# EAGLE library part 5576ХС1 (library fpga)
АЕЯР.431260.478 ТУ
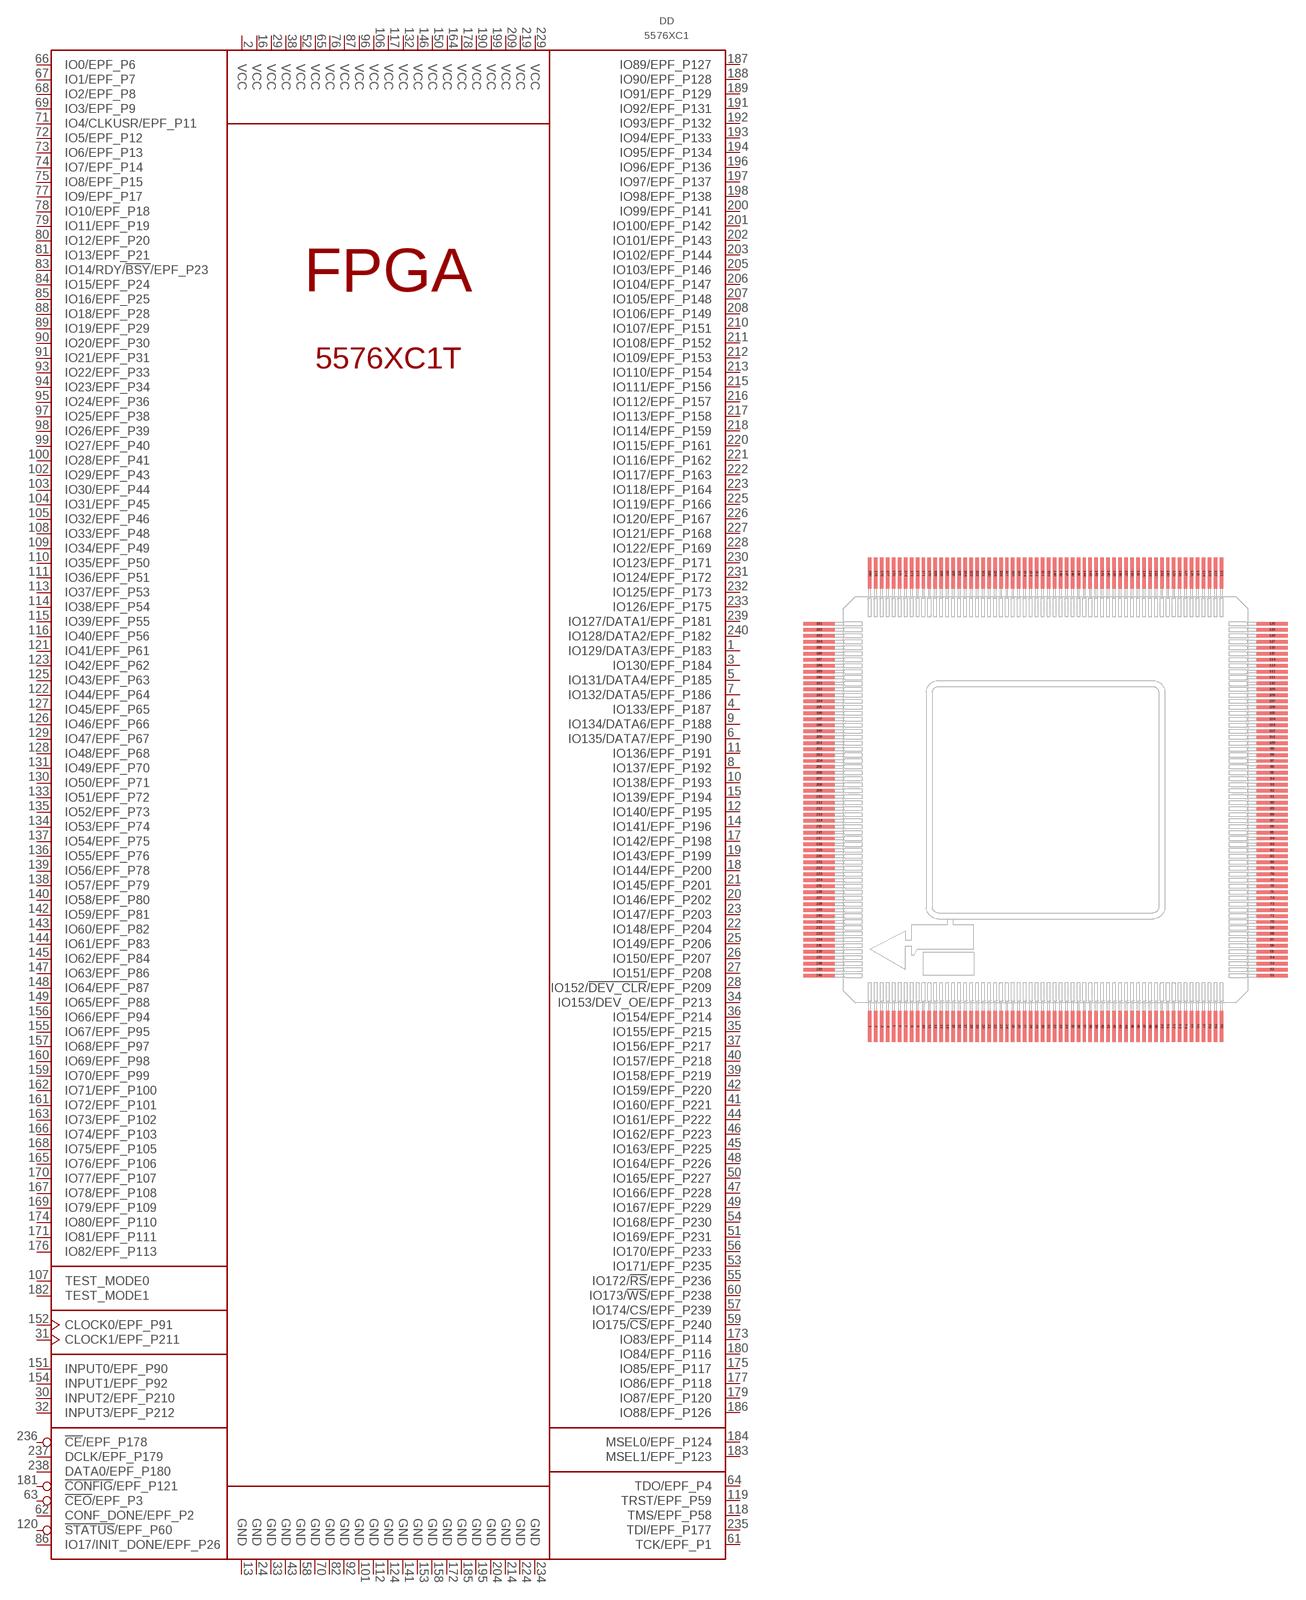
[diagram p0: symbol with the pads of 4245.240-6.01; footprint 4245.240-6.01]

Designator prefix DD

## 5576ХС1Т  [4245.240-6.01]
1  IO129/DATA3/EPF_P183
2  VCC  pwr
3  IO130/EPF_P184
4  IO133/EPF_P187
5  IO131/DATA4/EPF_P185
6  IO135/DATA7/EPF_P190
7  IO132/DATA5/EPF_P186
8  IO137/EPF_P192
9  IO134/DATA6/EPF_P188
10  IO138/EPF_P193
11  IO136/EPF_P191
12  IO140/EPF_P195
13  GND  pwr
14  IO141/EPF_P196
15  IO139/EPF_P194
16  VCC  pwr
17  IO142/EPF_P198
18  IO144/EPF_P200
19  IO143/EPF_P199
20  IO146/EPF_P202
21  IO145/EPF_P201
22  IO148/EPF_P204
23  IO147/EPF_P203
24  GND  pwr
25  IO149/EPF_P206
26  IO150/EPF_P207
27  IO151/EPF_P208
28  IO152/!DEV_CLR!/EPF_P209
29  VCC  pwr
30  INPUT2/EPF_P210  in
31  CLOCK1/EPF_P211  in
32  INPUT3/EPF_P212  in
33  GND  pwr
34  IO153/DEV_OE/EPF_P213
35  IO155/EPF_P215
36  IO154/EPF_P214
37  IO156/EPF_P217
38  VCC  pwr
39  IO158/EPF_P219
40  IO157/EPF_P218
41  IO160/EPF_P221
42  IO159/EPF_P220
43  GND  pwr
44  IO161/EPF_P222
45  IO163/EPF_P225
46  IO162/EPF_P223
47  IO166/EPF_P228
48  IO164/EPF_P226
49  IO167/EPF_P229
50  IO165/EPF_P227
51  IO169/EPF_P231
52  VCC  pwr
53  IO171/EPF_P235
54  IO168/EPF_P230
55  IO172/!RS!/EPF_P236
56  IO170/EPF_P233
57  IO174/CS/EPF_P239
58  GND  pwr
59  IO175/!CS!/EPF_P240
60  IO173/!WS!/EPF_P238
61  TCK/EPF_P1  in
62  CONF_DONE/EPF_P2  out
63  !CEO!/EPF_P3  out
64  TDO/EPF_P4  out
65  VCC  pwr
66  IO0/EPF_P6
67  IO1/EPF_P7
68  IO2/EPF_P8
69  IO3/EPF_P9
70  GND  pwr
71  IO4/CLKUSR/EPF_P11
72  IO5/EPF_P12
73  IO6/EPF_P13
74  IO7/EPF_P14
75  IO8/EPF_P15
76  VCC  pwr
77  IO9/EPF_P17
78  IO10/EPF_P18
79  IO11/EPF_P19
80  IO12/EPF_P20
81  IO13/EPF_P21
82  GND  pwr
83  IO14/RDY/!BSY!/EPF_P23
84  IO15/EPF_P24
85  IO16/EPF_P25
86  IO17/INIT_DONE/EPF_P26
87  VCC  pwr
88  IO18/EPF_P28
89  IO19/EPF_P29
90  IO20/EPF_P30
91  IO21/EPF_P31
92  GND  pwr
93  IO22/EPF_P33
94  IO23/EPF_P34
95  IO24/EPF_P36
96  VCC  pwr
97  IO25/EPF_P38
98  IO26/EPF_P39
99  IO27/EPF_P40
100  IO28/EPF_P41
101  GND  pwr
102  IO29/EPF_P43
103  IO30/EPF_P44
104  IO31/EPF_P45
105  IO32/EPF_P46
106  VCC  pwr
107  TEST_MODE0  nc
108  IO33/EPF_P48
109  IO34/EPF_P49
110  IO35/EPF_P50
111  IO36/EPF_P51
112  GND  pwr
113  IO37/EPF_P53
114  IO38/EPF_P54
115  IO39/EPF_P55
116  IO40/EPF_P56
117  VCC  pwr
118  TMS/EPF_P58  in
119  TRST/EPF_P59  in
120  !STATUS!/EPF_P60  out
121  IO41/EPF_P61
122  IO44/EPF_P64
123  IO42/EPF_P62
124  GND  pwr
125  IO43/EPF_P63
126  IO46/EPF_P66
127  IO45/EPF_P65
128  IO48/EPF_P68
129  IO47/EPF_P67
130  IO50/EPF_P71
131  IO49/EPF_P70
132  VCC  pwr
133  IO51/EPF_P72
134  IO53/EPF_P74
135  IO52/EPF_P73
136  IO55/EPF_P76
137  IO54/EPF_P75
138  IO57/EPF_P79
139  IO56/EPF_P78
140  IO58/EPF_P80
141  GND  pwr
142  IO59/EPF_P81
143  IO60/EPF_P82
144  IO61/EPF_P83
145  IO62/EPF_P84
146  VCC  pwr
147  IO63/EPF_P86
148  IO64/EPF_P87
149  IO65/EPF_P88
150  VCC  pwr
151  INPUT0/EPF_P90  in
152  CLOCK0/EPF_P91  in
153  GND  pwr
154  INPUT1/EPF_P92  in
155  IO67/EPF_P95
156  IO66/EPF_P94
157  IO68/EPF_P97
158  GND  pwr
159  IO70/EPF_P99
160  IO69/EPF_P98
161  IO72/EPF_P101
162  IO71/EPF_P100
163  IO73/EPF_P102
164  VCC  pwr
165  IO76/EPF_P106
166  IO74/EPF_P103
167  IO78/EPF_P108
168  IO75/EPF_P105
169  IO79/EPF_P109
170  IO77/EPF_P107
171  IO81/EPF_P111
172  GND  pwr
173  IO83/EPF_P114
174  IO80/EPF_P110
175  IO85/EPF_P117
176  IO82/EPF_P113
177  IO86/EPF_P118
178  VCC  pwr
179  IO87/EPF_P120
180  IO84/EPF_P116
181  !CONFIG!/EPF_P121  in
182  TEST_MODE1  nc
183  MSEL1/EPF_P123  in
184  MSEL0/EPF_P124  in
185  GND  pwr
186  IO88/EPF_P126
187  IO89/EPF_P127
188  IO90/EPF_P128
189  IO91/EPF_P129
190  VCC  pwr
191  IO92/EPF_P131
192  IO93/EPF_P132
193  IO94/EPF_P133
194  IO95/EPF_P134
195  GND  pwr
196  IO96/EPF_P136
197  IO97/EPF_P137
198  IO98/EPF_P138
199  VCC  pwr
200  IO99/EPF_P141
201  IO100/EPF_P142
202  IO101/EPF_P143
203  IO102/EPF_P144
204  GND  pwr
205  IO103/EPF_P146
206  IO104/EPF_P147
207  IO105/EPF_P148
208  IO106/EPF_P149
209  VCC  pwr
210  IO107/EPF_P151
211  IO108/EPF_P152
212  IO109/EPF_P153
213  IO110/EPF_P154
214  GND  pwr
215  IO111/EPF_P156
216  IO112/EPF_P157
217  IO113/EPF_P158
218  IO114/EPF_P159
219  VCC  pwr
220  IO115/EPF_P161
221  IO116/EPF_P162
222  IO117/EPF_P163
223  IO118/EPF_P164
224  GND  pwr
225  IO119/EPF_P166
226  IO120/EPF_P167
227  IO121/EPF_P168
228  IO122/EPF_P169
229  VCC  pwr
230  IO123/EPF_P171
231  IO124/EPF_P172
232  IO125/EPF_P173
233  IO126/EPF_P175
234  GND  pwr
235  TDI/EPF_P177  in
236  !CE!/EPF_P178  in
237  DCLK/EPF_P179  in
238  DATA0/EPF_P180  in
239  IO127/DATA1/EPF_P181
240  IO128/DATA2/EPF_P182

## Footprint 4245.240-6.01 (pad centres in mm)
smd 0.29 x 2.6: 1 -14.75,-19; 2 -14.25,-19; 3 -13.75,-19; 4 -13.25,-19; 5 -12.75,-19; 6 -12.25,-19; 7 -11.75,-19; 8 -11.25,-19; 9 -10.75,-19; 10 -10.25,-19; 11 -9.75,-19; 12 -9.25,-19; 13 -8.75,-19; 14 -8.25,-19; 15 -7.75,-19; 16 -7.25,-19; 17 -6.75,-19; 18 -6.25,-19; 19 -5.75,-19; 20 -5.25,-19; 21 -4.75,-19; 22 -4.25,-19; 23 -3.75,-19; 24 -3.25,-19; 25 -2.75,-19; 26 -2.25,-19; 27 -1.75,-19; 28 -1.25,-19; 29 -0.75,-19; 30 -0.25,-19; 31 0.25,-19; 32 0.75,-19; 33 1.25,-19; 34 1.75,-19; 35 2.25,-19; 36 2.75,-19; 37 3.25,-19; 38 3.75,-19; 39 4.25,-19; 40 4.75,-19; 41 5.25,-19; 42 5.75,-19; 43 6.25,-19; 44 6.75,-19; 45 7.25,-19; 46 7.75,-19; 47 8.25,-19; 48 8.75,-19; 49 9.25,-19; 50 9.75,-19; 51 10.25,-19; 52 10.75,-19; 53 11.25,-19; 54 11.75,-19; 55 12.25,-19; 56 12.75,-19; 57 13.25,-19; 58 13.75,-19; 59 14.25,-19; 60 14.75,-19; 121 14.75,19; 122 14.25,19; 123 13.75,19; 124 13.25,19; 125 12.75,19; 126 12.25,19; 127 11.75,19; 128 11.25,19; 129 10.75,19; 130 10.25,19; 131 9.75,19; 132 9.25,19; 133 8.75,19; 134 8.25,19; 135 7.75,19; 136 7.25,19; 137 6.75,19; 138 6.25,19; 139 5.75,19; 140 5.25,19; 141 4.75,19; 142 4.25,19; 143 3.75,19; 144 3.25,19; 145 2.75,19; 146 2.25,19; 147 1.75,19; 148 1.25,19; 149 0.75,19; 150 0.25,19; 151 -0.25,19; 152 -0.75,19; 153 -1.25,19; 154 -1.75,19; 155 -2.25,19; 156 -2.75,19; 157 -3.25,19; 158 -3.75,19; 159 -4.25,19; 160 -4.75,19; 161 -5.25,19; 162 -5.75,19; 163 -6.25,19; 164 -6.75,19; 165 -7.25,19; 166 -7.75,19; 167 -8.25,19; 168 -8.75,19; 169 -9.25,19; 170 -9.75,19; 171 -10.25,19; 172 -10.75,19; 173 -11.25,19; 174 -11.75,19; 175 -12.25,19; 176 -12.75,19; 177 -13.25,19; 178 -13.75,19; 179 -14.25,19; 180 -14.75,19
smd 2.6 x 0.29: 61 19,-14.75; 62 19,-14.25; 63 19,-13.75; 64 19,-13.25; 65 19,-12.75; 66 19,-12.25; 67 19,-11.75; 68 19,-11.25; 69 19,-10.75; 70 19,-10.25; 71 19,-9.75; 72 19,-9.25; 73 19,-8.75; 74 19,-8.25; 75 19,-7.75; 76 19,-7.25; 77 19,-6.75; 78 19,-6.25; 79 19,-5.75; 80 19,-5.25; 81 19,-4.75; 82 19,-4.25; 83 19,-3.75; 84 19,-3.25; 85 19,-2.75; 86 19,-2.25; 87 19,-1.75; 88 19,-1.25; 89 19,-0.75; 90 19,-0.25; 91 19,0.25; 92 19,0.75; 93 19,1.25; 94 19,1.75; 95 19,2.25; 96 19,2.75; 97 19,3.25; 98 19,3.75; 99 19,4.25; 100 19,4.75; 101 19,5.25; 102 19,5.75; 103 19,6.25; 104 19,6.75; 105 19,7.25; 106 19,7.75; 107 19,8.25; 108 19,8.75; 109 19,9.25; 110 19,9.75; 111 19,10.25; 112 19,10.75; 113 19,11.25; 114 19,11.75; 115 19,12.25; 116 19,12.75; 117 19,13.25; 118 19,13.75; 119 19,14.25; 120 19,14.75; 181 -19,14.75; 182 -19,14.25; 183 -19,13.75; 184 -19,13.25; 185 -19,12.75; 186 -19,12.25; 187 -19,11.75; 188 -19,11.25; 189 -19,10.75; 190 -19,10.25; 191 -19,9.75; 192 -19,9.25; 193 -19,8.75; 194 -19,8.25; 195 -19,7.75; 196 -19,7.25; 197 -19,6.75; 198 -19,6.25; 199 -19,5.75; 200 -19,5.25; 201 -19,4.75; 202 -19,4.25; 203 -19,3.75; 204 -19,3.25; 205 -19,2.75; 206 -19,2.25; 207 -19,1.75; 208 -19,1.25; 209 -19,0.75; 210 -19,0.25; 211 -19,-0.25; 212 -19,-0.75; 213 -19,-1.25; 214 -19,-1.75; 215 -19,-2.25; 216 -19,-2.75; 217 -19,-3.25; 218 -19,-3.75; 219 -19,-4.25; 220 -19,-4.75; 221 -19,-5.25; 222 -19,-5.75; 223 -19,-6.25; 224 -19,-6.75; 225 -19,-7.25; 226 -19,-7.75; 227 -19,-8.25; 228 -19,-8.75; 229 -19,-9.25; 230 -19,-9.75; 231 -19,-10.25; 232 -19,-10.75; 233 -19,-11.25; 234 -19,-11.75; 235 -19,-12.25; 236 -19,-12.75; 237 -19,-13.25; 238 -19,-13.75; 239 -19,-14.25; 240 -19,-14.75